# EAGLE library part AS5047D (library AS5047D)
14-Bit On-Axis Magnetic Rotary Position Sensor with 11-Bit Decimal and Binary Incremental Pulse Count
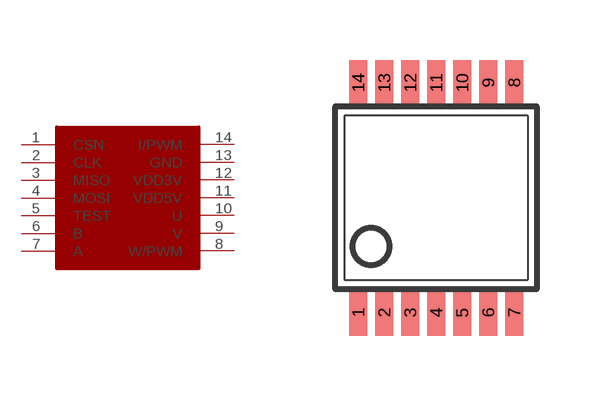
[diagram p1: symbol with the pads of TSSOP14; footprint TSSOP14]

Designator prefix -

## AS5047D-ATSM  [TSSOP14]
1  CSN  in
2  CLK  in
3  MISO  out
4  MOSI  in
5  TEST  in
6  B  out
7  A  out
8  W/PWM  out
9  V  out
10  U  out
11  VDD5V  pwr
12  VDD3V  pwr
13  GND  pwr
14  I/PWM  out

## Footprint TSSOP14 (pad centres in mm)
Thin Shrink Small Outline Plastic 14
smd 0.45 x 1.15: 1 -1.95,-2.875; 2 -1.3,-2.875; 3 -0.65,-2.875; 4 0,-2.875; 5 0.65,-2.875; 6 1.3,-2.875; 7 1.95,-2.875; 8 1.95,2.875; 9 1.3,2.875; 10 0.65,2.875; 11 0,2.875; 12 -0.65,2.875; 13 -1.3,2.875; 14 -1.95,2.875